# Altium schematic symbol library LCO.SchLib: 2 symbols
Pins are listed as number, name and electrical type; pins without a type are passive.

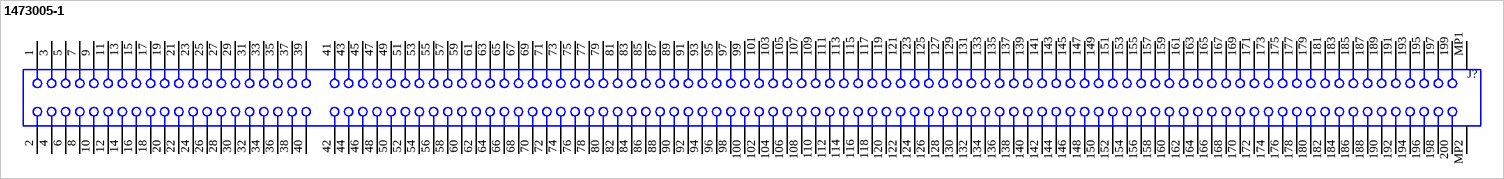
[diagram p0: symbol 1473005-1]

## 1473005-1
designator J?
DDR1 SODIMM Socket, Pitch 0.6 mm, 2 x 100 Position, Height 5.2 mm; Number of Contacts: 200; Product Length: 71.5mm; Gender: SKT; Product Depth: 26mm; Insulation Resistance: 250MOhm; Maximum Voltage Rating: 2.5V; Body Orientation: Right Angle; Pitch: 0.6mm; Product Height: 5.2mm; PackageReference: SMD; PackageDescription: DDR1 SODIMM Socket, Pitch 0.6 mm, 2 x 100 Position, Height 5.2 mm; Supplier 1: Digi-Key; Supplier Part Number 1: A99605-ND; Termination Method: Solder; Minimum Operating Temperature: -55C; Insulation Material: Thermoplastic; Packaging: Tray; Mounting: Surface Mount; Family: 1473005; Housing Material: Thermoplastic; Maximum Operating Temperature: 85C; Contact Plating: Gold Over Nickel; Type: SO DIMM Socket; Contact Material: Copper Alloy; Product Type: Connector Socket; Number of Rows: 2; ComponentLink1Description: Manufacturer URL; ComponentLink1URL: http://www.te.com; ComponentLink2Description: Datasheet; ComponentLink2URL: http://www.te.com/usa-en/plp/ddr1-and-ddr2-sodimm/Znq3.html
footprint TECO-1473005-1_V (SMD, Pitch 0.6mm, 2x100 Position, Height 5.2mm)
pins: 1, 2, 3, 4, 5, 6, 7, 8, 9, 10, 11, 12, 13, 14, 15, 16, 17, 18, 19, 20, 21, 22, 23, 24, 25, 26, 27, 28, 29, 30, 31, 32, 33, 34, 35, 36, 37, 38, 39, 40, 41, 42, 43, 44, 45, 46, 47, 48, 49, 50, 51, 52, 53, 54, 55, 56, 57, 58, 59, 60, 61, 62, 63, 64, 65, 66, 67, 68, 69, 70, 71, 72, 73, 74, 75, 76, 77, 78, 79, 80, 81, 82, 83, 84, 85, 86, 87, 88, 89, 90, 91, 92, 93, 94, 95, 96, 97, 98, 99, 100, 101, 102, 103, 104, 105, 106, 107, 108, 109, 110, 111, 112, 113, 114, 115, 116, 117, 118, 119, 120, 121, 122, 123, 124, 125, 126, 127, 128, 129, 130, 131, 132, 133, 134, 135, 136, 137, 138, 139, 140, 141, 142, 143, 144, 145, 146, 147, 148, 149, 150, 151, 152, 153, 154, 155, 156, 157, 158, 159, 160, 161, 162, 163, 164, 165, 166, 167, 168, 169, 170, 171, 172, 173, 174, 175, 176, 177, 178, 179, 180, 181, 182, 183, 184, 185, 186, 187, 188, 189, 190, 191, 192, 193, 194, 195, 196, 197, 198, 199, 200, MP1, MP2

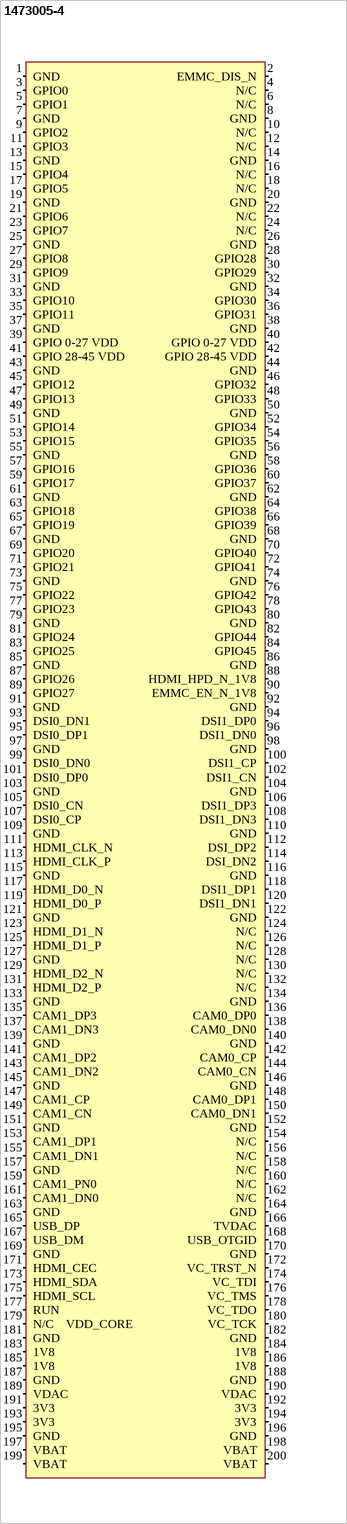
[diagram p1: symbol 1473005-4]

## 1473005-4
designator J?
Right Angle DDR2 DIMM Socket, Pitch 0.6 mm, 2 x 100 Position, Height 5.2 mm, -55 to 85 degC, RoHS, Tray; Memory Type: DDR 2 SDRAM; 3D Model: 1473005-4.pdf; Minimum Quantity: SODIMM; Unit PriceUSD: AMP; Number of Positions: 200; Other Names: 1473005-4-ND / A114851; DatasheetVersion: Rev. J3; PackageReference: SMD; PackageDescription: Socket, Pitch 0.6 mm, 2 x 100 Position, Height 5.2 mm; Supplier 1: Digi-Key; Supplier Part Number 1: A114851-ND; Quantity Available: Tray; Packaging: Tray; Mounting Feature: Standard; Standard Package: 20; RoHS Information: 1473005-4 Statement of Compliance / RoHS 2 Statement; Family: Memory Connectors - Inline Module Sockets; Features: Board Guide, Latches; Contact Finish Thickness: Flash; Series: AMP; Connector Style: SODIMM; Contact Finish: Gold; Category: Connectors, Interconnects; Mounting Type: Surface Mount, Right Angle; ComponentLink1Description: Manufacturer URL; ComponentLink1URL: http://www.te.com; ComponentLink2Description: Datasheet; ComponentLink2URL: http://www.te.com/commerce/DocumentDelivery/DDEController?Action=showdoc&DocId=Customer+Drawing%7F1473005%7FJ3%7Fpdf%7FEnglish%7FENG_CD_1473005_J3.pdf%7F1473005-4
footprint TECO-1473005-4_V (Socket, 200-Leads, Body Length 71.5mm, Pitch 0.6mm)
pins: 1 GND (in), 2 EMMC_DIS_N (in), 3 GPIO0 (in), 4 N/C (in), 5 GPIO1 (in), 6 N/C (in), 7 GND (in), 8 GND (in), 9 GPIO2 (in), 10 N/C (in), 11 GPIO3 (in), 12 N/C (in), 13 GND (in), 14 GND (in), 15 GPIO4 (in), 16 N/C (in), 17 GPIO5 (in), 18 N/C (in), 19 GND (in), 20 GND (in), 21 GPIO6 (in), 22 N/C (in), 23 GPIO7 (in), 24 N/C (in), 25 GND (in), 26 GND (in), 27 GPIO8 (in), 28 GPIO28 (in), 29 GPIO9 (in), 30 GPIO29 (in), 31 GND (in), 32 GND (in), 33 GPIO10 (in), 34 GPIO30 (in), 35 GPIO11 (in), 36 GPIO31 (in), 37 GND (in), 38 GND (in), 39 GPIO 0-27 VDD (in), 40 GPIO 0-27 VDD (in), 41 GPIO 28-45 VDD (in), 42 GPIO 28-45 VDD (in), 43 GND (in), 44 GND (in), 45 GPIO12 (in), 46 GPIO32 (in), 47 GPIO13 (in), 48 GPIO33 (in), 49 GND (in), 50 GND (in), 51 GPIO14 (in), 52 GPIO34 (in), 53 GPIO15 (in), 54 GPIO35 (in), 55 GND (in), 56 GND (in), 57 GPIO16 (in), 58 GPIO36 (in), 59 GPIO17 (in), 60 GPIO37 (in), 61 GND (in), 62 GND (in), 63 GPIO18 (in), 64 GPIO38 (in), 65 GPIO19 (in), 66 GPIO39 (in), 67 GND (in), 68 GND (in), 69 GPIO20 (in), 70 GPIO40 (in), 71 GPIO21 (in), 72 GPIO41 (in), 73 GND (in), 74 GND (in), 75 GPIO22 (in), 76 GPIO42 (in), 77 GPIO23 (in), 78 GPIO43 (in), 79 GND (in), 80 GND (in), 81 GPIO24 (in), 82 GPIO44 (in), 83 GPIO25 (in), 84 GPIO45 (in), 85 GND (in), 86 GND (in), 87 GPIO26 (in), 88 HDMI_HPD_N_1V8 (in), 89 GPIO27 (in), 90 EMMC_EN_N_1V8 (in), 91 GND (in), 92 GND (in), 93 DSI0_DN1 (in), 94 DSI1_DP0 (in), 95 DSI0_DP1 (in), 96 DSI1_DN0 (in), 97 GND (in), 98 GND (in), 99 DSI0_DN0 (in), 100 DSI1_CP (in), 101 DSI0_DP0 (in), 102 DSI1_CN (in), 103 GND (in), 104 GND (in), 105 DSI0_CN (in), 106 DSI1_DP3 (in), 107 DSI0_CP (in), 108 DSI1_DN3 (in), 109 GND (in), 110 GND (in), 111 HDMI_CLK_N (in), 112 DSI_DP2 (in), 113 HDMI_CLK_P (in), 114 DSI_DN2 (in), 115 GND (in), 116 GND (in), 117 HDMI_D0_N (in), 118 DSI1_DP1 (in), 119 HDMI_D0_P (in), 120 DSI1_DN1 (in), 121 GND (in), 122 GND (in), 123 HDMI_D1_N (in), 124 N/C (in), 125 HDMI_D1_P (in), 126 N/C (in), 127 GND (in), 128 N/C (in), 129 HDMI_D2_N (in), 130 N/C (in), 131 HDMI_D2_P (in), 132 N/C (in), 133 GND (in), 134 GND (in), 135 CAM1_DP3 (in), 136 CAM0_DP0 (in), 137 CAM1_DN3 (in), 138 CAM0_DN0 (in), 139 GND (in), 140 GND (in), 141 CAM1_DP2 (in), 142 CAM0_CP (in), 143 CAM1_DN2 (in), 144 CAM0_CN (in), 145 GND (in), 146 GND (in), 147 CAM1_CP (in), 148 CAM0_DP1 (in), 149 CAM1_CN (in), 150 CAM0_DN1 (in), 151 GND (in), 152 GND (in), 153 CAM1_DP1 (in), 154 N/C (in), 155 CAM1_DN1 (in), 156 N/C (in), 157 GND (in), 158 N/C (in), 159 CAM1_PN0 (in), 160 N/C (in), 161 CAM1_DN0 (in), 162 N/C (in), 163 GND (in), 164 GND (in), 165 USB_DP (in), 166 TVDAC (in), 167 USB_DM (in), 168 USB_OTGID (in), 169 GND (in), 170 GND (in), 171 HDMI_CEC (in), 172 VC_TRST_N (in), 173 HDMI_SDA (in), 174 VC_TDI (in), 175 HDMI_SCL (in), 176 VC_TMS (in), 177 RUN (in), 178 VC_TDO (in), 179 N/C    VDD_CORE (in), 180 VC_TCK (in), 181 GND (in), 182 GND (in), 183 1V8 (in), 184 1V8 (in), 185 1V8 (in), 186 1V8 (in), 187 GND (in), 188 GND (in), 189 VDAC (in), 190 VDAC (in), 191 3V3 (in), 192 3V3 (in), 193 3V3 (in), 194 3V3 (in), 195 GND (in), 196 GND (in), 197 VBAT (in), 198 VBAT (in), 199 VBAT (in), 200 VBAT (in)